# EAGLE library part MIC2253 (library Power > Switching Controllers)
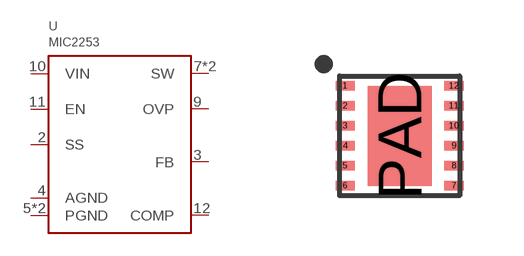
[diagram p12: symbol with the pads of DFN12; footprint DFN12]

Designator prefix U

## MIC2253  [DFN12]
2  SS
3  FB
4  AGND
5  PGND
6  PGND
7  SW
8  SW
9  OVP
10  VIN
11  EN
12  COMP

## Footprint DFN12 (pad centres in mm)
smd 0.48 x 0.23: 1 -1.36,1.25; 2 -1.36,0.75; 3 -1.36,0.25; 4 -1.36,-0.25; 5 -1.36,-0.75; 6 -1.36,-1.25; 7 1.36,-1.25; 8 1.36,-0.75; 9 1.36,-0.25; 10 1.36,0.25; 11 1.36,0.75; 12 1.36,1.25
smd 1.6 x 2.5: PAD 0,0